# Altium footprint library PCB - DIODES - SOD-523.PCBLIB: 1 footprints
Each footprint in its own frame and in the unit in brackets; x right, y up, seen from the top. Pads: shape width x height; smd on the part's side, far side on the other; paste and mask are expansions set on the pad; w line width, h text height; cw(c..) or ccw(c..) is an arc to the next point about the centre after c.
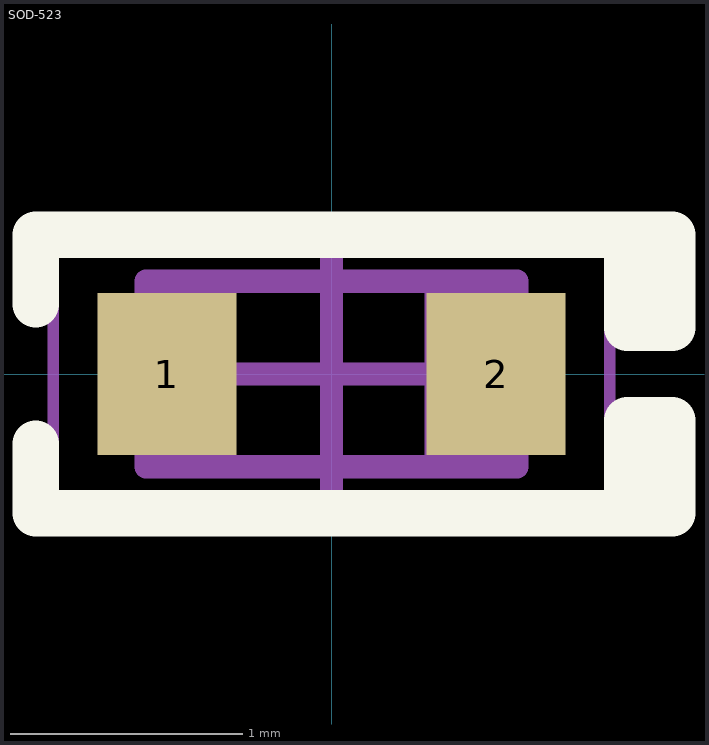
[diagram p0: the footprint, top view; thin cyan lines are the x and y axes]

## SOD-523 [mm] "Molded Diode, 2-Leads, Body 1.60x0.80mm, IPC Medium Density"
height 0.77
pads (2):
  rect 0.6x0.7 smd: 1(-0.71,0) 2(0.71,0)
Top Overlay:
  lines w0.2: -1.275,-0.3 -1.275,-0.6 1.469,-0.6 1.469,-0.2 1.275,-0.2 1.275,-0.6 ; -1.275,0.3 -1.275,0.6 1.469,0.6 1.469,0.2 1.275,0.2 1.275,0.6
Mechanical 13:
  rectangle: 0.4,-0.4 0.8,0.4
  lines w0.1: -0.8,-0.4 0.8,-0.4 0.8,0.4 -0.8,0.4 -0.8,-0.4
Mechanical 15:
  lines w0.05: -1.2,-0.6 -1.2,0.6 1.2,0.6 1.2,-0.6 -1.2,-0.6
Mechanical 2 (Mech9):
  lines w0.1: -0.5,0 0.5,0 ; 0,-0.5 0,0.5
3D body "SOD-523.step": height 0.82, standoff -0.03, extent -0.8,-0.4 0.8,0.4